# EAGLE library part TPS2420 (library RNH_TPS2420)
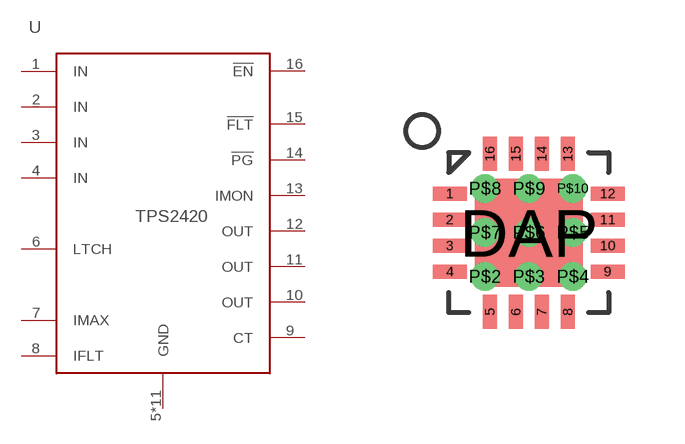
[diagram p0: symbol with the pads of QFN-306; footprint QFN-306]

Designator prefix U

## TPS2420QFN-16  [QFN-306]
1  IN
2  IN
3  IN
4  IN
5  GND  pwr
6  LTCH
7  IMAX
8  IFLT
9  CT
10  OUT
11  OUT
12  OUT
13  IMON
14  !PG
15  !FLT
16  !EN
DAP  GND  pwr
P$2  GND  pwr
P$3  GND  pwr
P$4  GND  pwr
P$5  GND  pwr
P$6  GND  pwr
P$7  GND  pwr
P$8  GND  pwr
P$9  GND  pwr
P$10  GND  pwr

## Footprint QFN-306 (pad centres in mm)
smd 0.85 x 0.35: 1 -1.975,0.975; 2 -1.975,0.325; 3 -1.975,-0.325; 4 -1.975,-0.975; 9 1.975,-0.975; 10 1.975,-0.325; 11 1.975,0.325; 12 1.975,0.975
smd 0.35 x 0.85: 5 -0.975,-1.975; 6 -0.325,-1.975; 7 0.325,-1.975; 8 0.975,-1.975; 13 0.975,1.975; 14 0.325,1.975; 15 -0.325,1.975; 16 -0.975,1.975
smd 2.7 x 2.7: DAP 0,0
drill 0.203 pad 0.406: P$2 -1.1,-1.1; P$3 0,-1.1; P$4 1.1,-1.1; P$5 1.1,0; P$6 0,0; P$7 -1.1,0; P$8 -1.1,1.1; P$9 0,1.1; P$10 1.1,1.1